# Altium schematic symbol library 12.Trimmers.SchLib: 12 symbols
Pins are listed as number, name and electrical type; pins without a type are passive.

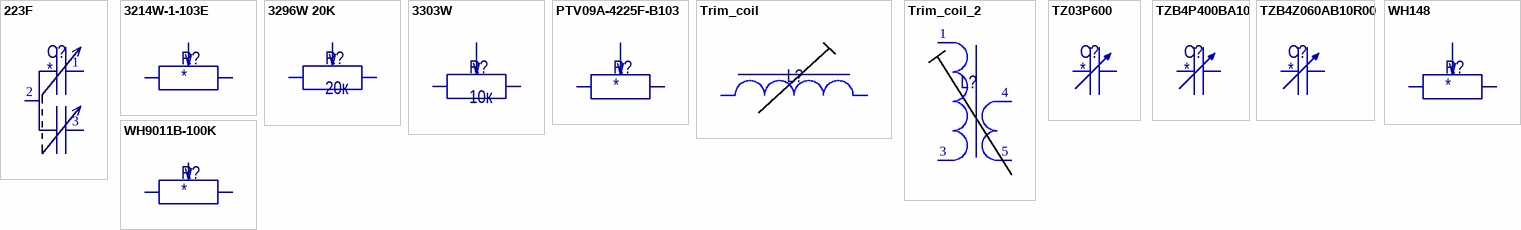
[diagram p0: symbols 223F to WH9011B-100K]

## 223F
designator C?
footprint 223p
pins: 1, 2, 3

## 3214W-1-103E
designator R?
footprint 3214W Bourns
pins: 1, 2, 3

## 3296W 20K
designator R?, comment 20к
footprint 3296W
footprint 3296W_SMD
pins: 1, 2, 3

## 3303W
designator R?, comment 10к
footprint 3303X
pins: 1, 2, 3

## PTV09A-4225F-B103
designator R?
10 кОм, Резистор переменный
footprint PTV09A-1
pins: 1, 2, 3

## Trim_coil
designator L?  (value not drawn)
footprint trim_coil
pins: 1, 3

## Trim_coil_2
designator L?  (value not drawn)
footprint trim_coil
pins: 1, 3, 4, 5

## TZ03P600
designator C?
Murata ceramic trimmer capacitor
footprint TZ03 (Murata Trimmer Capacitor)
pins: 1, 2

## TZB4P400BA10
designator C?
footprint tzb4p
pins: 1, 2

## TZB4Z060AB10R00
designator C?
footprint tzb4p
pins: 1, 2

## WH148
designator R?
footprint WH148
footprint WH148R
pins: 1, 2, 3

## WH9011B-100K
designator R?
footprint WH9011B
pins: 1, 2, 3